# Altium schematic symbol library 7805.SchLib: 1 symbol
Pins are listed as number, name and electrical type; pins without a type are passive.

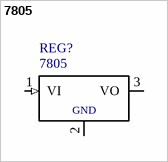
[diagram p0: symbol 7805]

## 7805
designator REG?
Conn Quick Fit Header HDR 5 POS 5.1mm Solder RA Thru-Hole; MF: Keystone; SnapEDA_Link: https://www.snapeda.com/parts/7805/Keystone%20Electronics/view-part/?ref=snap; Price: 2.12 USD; MP: 7805; Package: None; Availability: Bad; Value: *
footprint TO92-
pins: 1 VI (in), 2 GND, 3 VO